# EAGLE library part DS1629 (library DS1629)
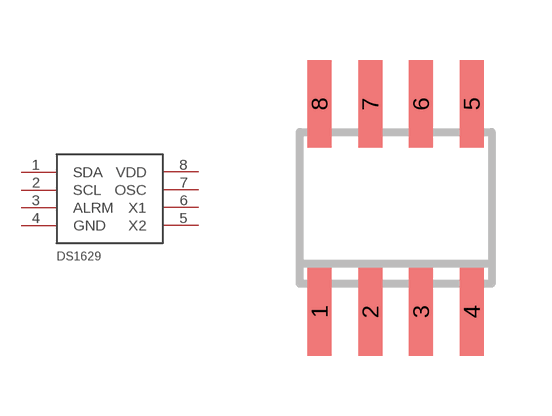
[diagram p0: symbol with the pads of S08; footprint S08]

Designator prefix -

## DS1629  [S08]
1  SDA
2  SCL
3  ALRM
4  GND
5  X2
6  X1
7  OSC
8  VDD

## Footprint S08 (pad centres in mm)
smd 0.6 x 2.2: 1 0.635,1.21; 2 1.905,1.21; 3 3.175,1.21; 4 4.445,1.21; 5 4.445,6.41; 6 3.175,6.41; 7 1.905,6.41; 8 0.635,6.41